# Altium footprint library Analog_mic_breakout.PcbLib: 5 footprints
Each footprint in its own frame and in the unit in brackets; x right, y up, seen from the top. Pads: shape width x height; smd on the part's side, far side on the other; paste and mask are expansions set on the pad; w line width, h text height; cw(c..) or ccw(c..) is an arc to the next point about the centre after c.
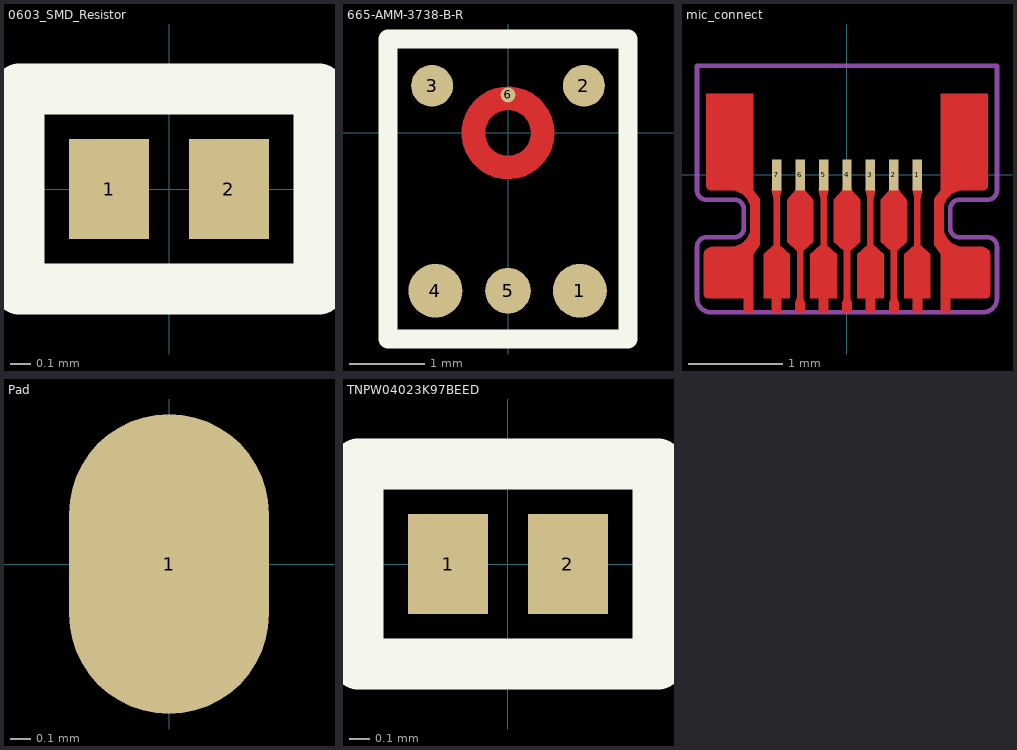
[diagram p0: the footprints below, top view; thin cyan lines are the x and y axes]

## 0603_SMD_Resistor [mm]
pads (2):
  rect 0.4x0.5 smd mask+0.052: 1(-0.3,0) 2(0.3,0)
Top Overlay:
  lines w0.254: -0.75,-0.5 0.75,-0.5 0.75,0.5 -0.75,0.5 -0.75,-0.5
3D body "User Library-RES_0603-0201.sldprt": height 0.32, standoff -0.01, extent -0.34,-0.165 0.34,0.165

## 665-AMM-3738-B-R [mm] "Analog MEMS Microphone"
height 1.118
pads (6):
  round 0.72 smd: 1(0.96,-2.11) 4(-0.97,-2.11)
  round 0.56 smd mask+0.102: 2(1.015,0.63)
  round 0.56 smd: 3(-1.015,0.63)
  round 0.61 smd: 5(0,-2.11)
  round 0.2 smd: 6(0,0.508)
Top Layer:
  circle w0.315: c0,0 r0.463
Top Overlay:
  lines w0.25: -1.605,-2.755 1.605,-2.755 1.605,1.255 -1.605,1.255 -1.605,-2.755
3D body "amm-3738-b-r.stp": height 1.11, standoff 0, extent -1.475,-2.63 1.475,1.13

## mic_connect [mm] "connection pad for behind ear microphone"
pads (7):
  rect 0.1x0.33 smd paste-1000 mask-1000: 1(0.75,0) 2(0.5,0) 3(0.25,0) 4(0,0) 5(-0.25,0) 6(-0.5,0) 7(-0.75,0)
Top Layer:
  region: 1,-1.465 1.1,-1.465 1.1,-1.315 1.48,-1.315 1.49,-1.315 1.508,-1.307 1.522,-1.293 1.53,-1.275 1.53,-1.265 1.53,-0.865 1.53,-0.845 1.515,-0.808 1.487,-0.78 1.45,-0.765 1.43,-0.765 1.23,-0.765 1.191,-0.761 1.119,-0.731 1.064,-0.676 1.034,-0.604 1.03,-0.565 1.03,-0.365 1.034,-0.326 1.064,-0.254 1.119,-0.199 1.191,-0.169 1.23,-0.165 1.45,-0.165 1.46,-0.165 1.478,-0.157 1.492,-0.143 1.5,-0.125 1.5,-0.115 1.5,0.865 1,0.865 1,-0.165 0.93,-0.255 0.93,-0.745 1,-0.845
  region: -1,-1.465 -1.1,-1.465 -1.1,-1.315 -1.48,-1.315 -1.49,-1.315 -1.508,-1.307 -1.522,-1.293 -1.53,-1.275 -1.53,-1.265 -1.53,-0.865 -1.53,-0.845 -1.515,-0.808 -1.487,-0.78 -1.45,-0.765 -1.43,-0.765 -1.23,-0.765 -1.191,-0.761 -1.119,-0.731 -1.064,-0.676 -1.034,-0.604 -1.03,-0.565 -1.03,-0.365 -1.034,-0.326 -1.064,-0.254 -1.119,-0.199 -1.191,-0.169 -1.23,-0.165 -1.45,-0.165 -1.46,-0.165 -1.478,-0.157 -1.492,-0.143 -1.5,-0.125 -1.5,-0.115 -1.5,0.865 -1,0.865 -1,-0.165 -0.93,-0.255 -0.93,-0.745 -1,-0.845
  region: -0.47,-0.815 -0.36,-0.715 -0.36,-0.265 -0.45,-0.165 -0.45,-0.145 -0.55,-0.145 -0.55,-0.165 -0.64,-0.265 -0.64,-0.715 -0.53,-0.815
  region: 0.03,-0.815 0.14,-0.715 0.14,-0.265 0.05,-0.165 0.05,-0.145 -0.05,-0.145 -0.05,-0.165 -0.14,-0.265 -0.14,-0.715 -0.03,-0.815
  region: -0.61,-1.315 -0.61,-0.845 -0.72,-0.745 -0.78,-0.745 -0.89,-0.845 -0.89,-1.315 -0.8,-1.315 -0.8,-1.465 -0.7,-1.465 -0.7,-1.315
  region: -0.11,-1.315 -0.11,-0.845 -0.22,-0.745 -0.28,-0.745 -0.39,-0.845 -0.39,-1.315 -0.3,-1.315 -0.3,-1.465 -0.2,-1.465 -0.2,-1.315
  region: 0.39,-1.315 0.39,-0.845 0.28,-0.745 0.22,-0.745 0.11,-0.845 0.11,-1.315 0.2,-1.315 0.2,-1.465 0.3,-1.465 0.3,-1.315
  region: 0.89,-1.315 0.89,-0.845 0.78,-0.745 0.72,-0.745 0.61,-0.845 0.61,-1.315 0.7,-1.315 0.7,-1.465 0.8,-1.465 0.8,-1.315
  region: 0.53,-0.815 0.64,-0.715 0.64,-0.265 0.55,-0.165 0.55,-0.145 0.45,-0.145 0.45,-0.165 0.36,-0.265 0.36,-0.715 0.47,-0.815
  region: 0.3,-0.155 0.3,-0.165 0.28,-0.265 0.22,-0.265 0.2,-0.165 0.2,-0.155
  region: -0.2,-0.155 -0.2,-0.165 -0.22,-0.265 -0.28,-0.265 -0.3,-0.165 -0.3,-0.155
  region: -0.7,-0.155 -0.7,-0.165 -0.72,-0.265 -0.78,-0.265 -0.8,-0.165 -0.8,-0.155
  region: 0.8,-0.155 0.8,-0.165 0.78,-0.265 0.72,-0.265 0.7,-0.165 0.7,-0.155
  region: 0.55,-1.465 0.55,-1.365 0.53,-1.305 0.47,-1.305 0.45,-1.365 0.45,-1.465
  region: 0.05,-1.465 0.05,-1.365 0.03,-1.305 -0.03,-1.305 -0.05,-1.365 -0.05,-1.465
  region: -0.45,-1.465 -0.45,-1.365 -0.47,-1.305 -0.53,-1.305 -0.55,-1.365 -0.55,-1.465
  lines w0.07: -0.75,-1.365 -0.75,0 -0.75,0.035 ; -0.5,-1.365 -0.5,0 -0.5,0.035 ; -0.25,-1.365 -0.25,0 -0.25,0.035 ; 0,-1.365 0,0.035 ; 0.25,-1.365 0.25,0 0.25,0.035 ; 0.5,-1.365 0.5,0 0.5,0.035 ; 0.75,-1.365 0.75,0 0.75,0.035
Top Solder:
  region: -1.45,-1.465 -1.48,-1.465 -1.535,-1.442 -1.577,-1.4 -1.6,-1.345 -1.6,-1.315 -1.6,-0.765 -1.6,-0.745 -1.585,-0.708 -1.557,-0.68 -1.52,-0.665 -1.5,-0.665 -1.2,-0.665 -1.18,-0.663 -1.144,-0.648 -1.117,-0.621 -1.102,-0.585 -1.1,-0.565 -1.1,-0.365 -1.102,-0.345 -1.117,-0.309 -1.144,-0.282 -1.18,-0.267 -1.2,-0.265 -1.5,-0.265 -1.52,-0.265 -1.557,-0.25 -1.585,-0.222 -1.6,-0.185 -1.6,-0.165 -1.6,0.165 1.6,0.165 1.6,-0.165 1.6,-0.185 1.585,-0.222 1.557,-0.25 1.52,-0.265 1.5,-0.265 1.2,-0.265 1.18,-0.267 1.144,-0.282 1.117,-0.309 1.102,-0.345 1.1,-0.365 1.1,-0.565 1.102,-0.585 1.117,-0.621 1.144,-0.648 1.18,-0.663 1.2,-0.665 1.5,-0.665 1.52,-0.665 1.557,-0.68 1.585,-0.708 1.6,-0.745 1.6,-0.765 1.6,-1.315 1.6,-1.345 1.577,-1.4 1.535,-1.442 1.48,-1.465 1.45,-1.465
Top Courtyard:
  lines w0.05: -1.6,-1.315 ccw(c-1.45,-1.315) -1.45,-1.465 0,-1.465 1.45,-1.465 ccw(c1.45,-1.315) 1.6,-1.315 1.6,-0.765 ccw(c1.5,-0.765) 1.5,-0.665 1.2,-0.665 cw(c1.2,-0.565) 1.1,-0.565 1.1,-0.365 cw(c1.2,-0.365) 1.2,-0.265 1.5,-0.265 ccw(c1.5,-0.165) 1.6,-0.165 1.6,1.165 0,1.165 -1.6,1.165 -1.6,-0.165 ccw(c-1.5,-0.165) -1.5,-0.265 -1.2,-0.265 cw(c-1.2,-0.365) -1.1,-0.365 -1.1,-0.565 cw(c-1.2,-0.565) -1.2,-0.665 -1.5,-0.665 ccw(c-1.5,-0.765) -1.6,-0.765 -1.6,-1.315
3D body: height 0.02, standoff -0.22, extent -1.6,-0.155 1.6,-0.135
3D body: height -0.05, standoff -0.2, extent -1.6,-1.465 1.6,1.165

## Pad [mm]
pads (1):
  oval 1x1.5 smd: 1(0,0)

## TNPW04023K97BEED [mm] "3.97K OHM resistor 0.1% 1/16W 0402 imperial"
pads (2):
  rect 0.4x0.5 smd mask+0.052: 1(-0.3,0) 2(0.3,0)
Top Overlay:
  lines w0.254: -0.75,-0.5 0.75,-0.5 0.75,0.5 -0.75,0.5 -0.75,-0.5